# EAGLE library part TD1410 (library tinyPipes-proto)
2A 380KHz 20V PWM Buck DC/DC Converter
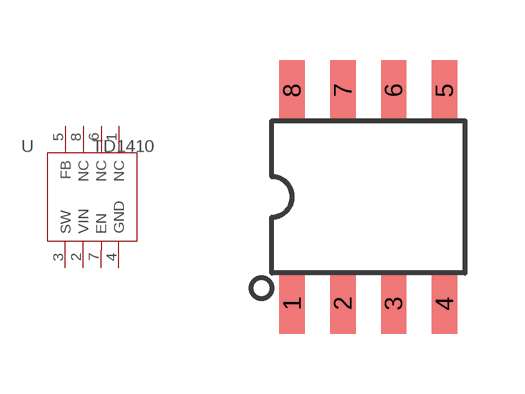
[diagram p3: symbol with the pads of SOP8; footprint SOP8]

Designator prefix U

## TD1410  [SOP8]
1  NC  nc
2  VIN  in
3  SW  out
4  GND  sup
5  FB  in
6  NC  nc
7  EN  in
8  NC  nc

## Footprint SOP8 (pad centres in mm)
SMALL OUTLINE PACKAGE
smd 0.635 x 1.524: 1 -1.905,-2.667; 2 -0.635,-2.667; 3 0.635,-2.667; 4 1.905,-2.667; 5 1.905,2.667; 6 0.635,2.667; 7 -0.635,2.667; 8 -1.905,2.667